# EAGLE library part XR-1097P (library exar)
EQUALIZER DISPLAY/FILTER/ADC
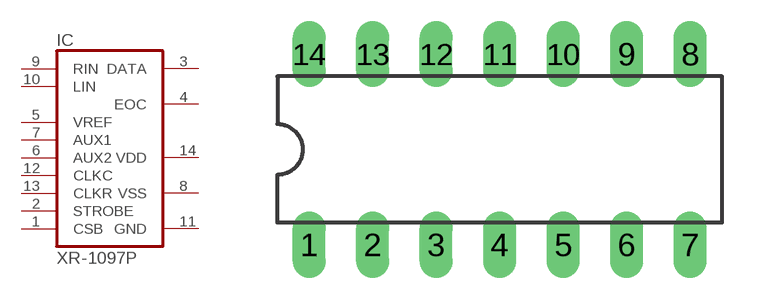
[diagram p6: symbol with the pads of DIL14; footprint DIL14]

Designator prefix IC

## XR-1097P (OC_FARNELL: unknown; OC_NEWARK: unknown)  [DIL14]
1  CSB  in
2  STROBE  in
3  DATA
4  EOC  out
5  VREF  in
6  AUX2  in
7  AUX1  in
8  VSS  pwr
9  RIN  in
10  LIN  in
11  GND  pwr
12  CLKC  in
13  CLKR  in
14  VDD  pwr

## Footprint DIL14 (pad centres in mm)
Dual In Line Package
drill 0.813 long: 1 -7.62,-3.81; 2 -5.08,-3.81; 3 -2.54,-3.81; 4 0,-3.81; 5 2.54,-3.81; 6 5.08,-3.81; 7 7.62,-3.81; 8 7.62,3.81; 9 5.08,3.81; 10 2.54,3.81; 11 0,3.81; 12 -2.54,3.81; 13 -5.08,3.81; 14 -7.62,3.81